# Altium integrated library Big_Library_Temp_Sensor.IntLib: 3 symbols
Pins are listed as number, name and electrical type; pins without a type are passive.

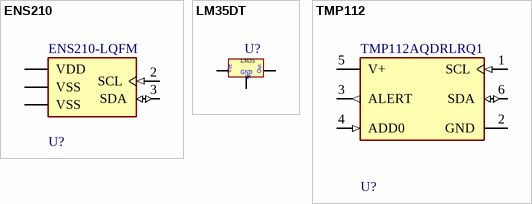
[diagram p0: symbols ENS210 to TMP112]

## ENS210
designator U?, comment ENS210-LQFM
I2C, QFN4, DIGITAL PRE-CALIBRATE; Manufacturer: ams; Standoff Height: 0mm; Accuracy: 3.5%; Resolution: 16bits; Operating Supply Current: 0.04-61uA; Min Supply Voltage: 1.71V; Max Supply Voltage: 3.6V; Package: 0; Height: 0.8mm; Digikey Description: I2C, QFN4, DIGITAL PRE-CALIBRATE; Category: IC; Temperature Range High: +100°C; Lead Free: Yes; Ambient Temperature Range High: +100°C; ComponentLink2URL: https://ams.com/documents/20143/36005/ENS210_DS000470_2-00.pdf; Interface: I2C; Temperature: -40°C to +100°C; Ambient Temperature Range Low: -40°C; Device Class L2: Temperature and Humidity Sensors; Octopart: https://octopart.com/ens210-lqfm-ams-76585459; Automotive: No; Ipc Land Pattern Name: DFN200X200X75-4; Manufacturer Part Number: ENS210-LQFM; Device Class L1: Sensors; Temperature Range Low: -40°C; ComponentLink2Description: Datasheet; Sensor Output: I2C; Device Class L3: unset; RoHS: TRUE
footprint FP-ENS210-LQFM-IPC_A
footprint FP-ENS210-LQFM-IPC_B
footprint FP-ENS210-LQFM-IPC_C
footprint FP-ENS210-LQFM-MFG
pins: 1 VDD (power), 2 SCL (in), 3 SDA (io), 4 VSS (power), 5 VSS (power)

## LM35DT
designator U?
pins: 1 Vcc, 2 GND, 3 OUT
text: LM35; Out

## TMP112
designator U?, comment TMP112AQDRLRQ1
SENSOR DIGITAL -40C-125C 6SOT; Manufacturer: Texas Instruments; Resolution: 12bits; Automotive Grade: Grade 1; Standoff Height: 0mm; Max Junction Temp: +150°C; Max Supply Voltage: 3.6V; Min Supply Voltage: 1.4V; Output Voltage: 5V; Interface: I2C,2-Wire,SMBus; Sensor Output: I2C,SMBus; Operating Supply Current: 7-85uA; Temperature Range Low: -40°C; Device Class L2: Temperature and Humidity Sensors; Height: 0.6mm; Automotive: Yes; Temperature Range High: +125°C; Category: IC; RoHS: TRUE; Lead Free: Yes; Ambient Temperature Range High: +125°C; Ambient Temperature Range Low: -40°C; Octopart: https://octopart.com/tmp112aqdrlrq1-texas+instruments-50418097; Ipc Land Pattern Name: SOTFL50P160X60-6; Device Class L1: Sensors; Device Class L3: unset; Digikey Description: SENSOR DIGITAL -40C-125C 6SOT; Mouser Description: Temp Sensor Digital Serial (2-Wire, I2C) Automotive 6-Pin SOT-563 T/R; Temperature: -40°C to +125°C; ComponentLink2Description: Datasheet; ComponentLink2URL: http://www.ti.com/lit/ds/symlink/tmp112-q1.pdf; Manufacturer Part Number: TMP112AQDRLRQ1; Package: DRL0006A
footprint Model Name (Model Description)
footprint FP-DRL0006A-IPC_A
footprint FP-DRL0006A-IPC_B
footprint FP-DRL0006A-IPC_C
footprint FP-DRL0006A-MFG
pins: 1 SCL (in), 2 GND (power), 3 ALERT (out), 4 ADD0 (in), 5 V+ (power), 6 SDA (io)